# EAGLE library part ATZB-24-A2 (library apbteam_zigbit)
ATZB-24-A2 Package (Dual antenna Zigbit module) Created by florent@duchon.cc
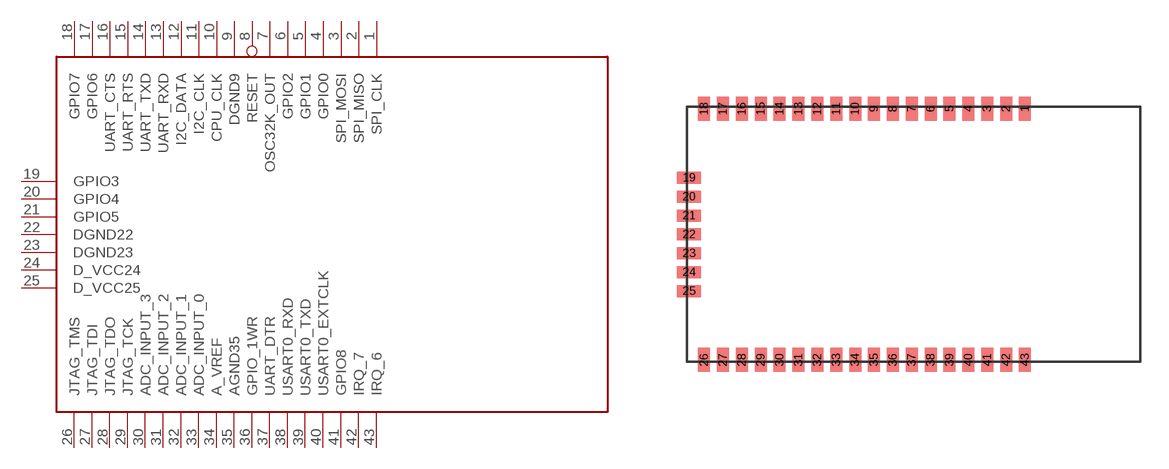
[diagram p0: symbol with the pads of ATZB-24-A2R; footprint ATZB-24-A2R]

Designator prefix -

## ATZB-24-A2  [ATZB-24-A2R]
1  SPI_CLK
2  SPI_MISO
3  SPI_MOSI
4  GPIO0
5  GPIO1
6  GPIO2
7  OSC32K_OUT
8  RESET
9  DGND9
10  CPU_CLK
11  I2C_CLK
12  I2C_DATA
13  UART_RXD
14  UART_TXD
15  UART_RTS
16  UART_CTS
17  GPIO6
18  GPIO7
19  GPIO3
20  GPIO4
21  GPIO5
22  DGND22
23  DGND23
24  D_VCC24
25  D_VCC25
26  JTAG_TMS
27  JTAG_TDI
28  JTAG_TDO
29  JTAG_TCK
30  ADC_INPUT_3
31  ADC_INPUT_2
32  ADC_INPUT_1
33  ADC_INPUT_0
34  A_VREF
35  AGND35
36  GPIO_1WR
37  UART_DTR
38  USART0_RXD
39  USART0_TXD
40  USART0_EXTCLK
41  GPIO8
42  IRQ_7
43  IRQ_6

## Footprint ATZB-24-A2R (pad centres in mm)
ATZB-24-A2 Footprint Created by florent@duchon.cc
smd 0.635 x 1.27: 1 17.9,-0.1; 2 16.9,-0.1; 3 15.9,-0.1; 4 14.9,-0.1; 5 13.9,-0.1; 6 12.9,-0.1; 7 11.9,-0.1; 8 10.9,-0.1; 9 9.9,-0.1; 10 8.9,-0.1; 11 7.9,-0.1; 12 6.9,-0.1; 13 5.9,-0.1; 14 4.9,-0.1; 15 3.9,-0.1; 16 2.9,-0.1; 17 1.9,-0.1; 18 0.9,-0.1; 26 0.9,-13.4; 27 1.9,-13.4; 28 2.9,-13.4; 29 3.9,-13.4; 30 4.9,-13.4; 31 5.9,-13.4; 32 6.9,-13.4; 33 7.9,-13.4; 34 8.9,-13.4; 35 9.9,-13.4; 36 10.9,-13.4; 37 11.9,-13.4; 38 12.9,-13.4; 39 13.9,-13.4; 40 14.9,-13.4; 41 15.9,-13.4; 42 16.9,-13.4; 43 17.9,-13.4
smd 1.27 x 0.635: 19 0.1,-3.75; 20 0.1,-4.75; 21 0.1,-5.75; 22 0.1,-6.75; 23 0.1,-7.75; 24 0.1,-8.75; 25 0.1,-9.75